# EAGLE library part BM06B-NSHSS-TBT (library NSH)
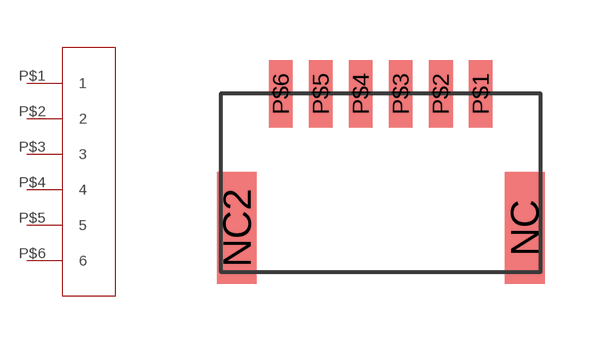
[diagram p0: symbol with the pads of BM06B-NSHSS-TBT; footprint BM06B-NSHSS-TBT]

Designator prefix -

## BM06B-NSHSS-TBT  [BM06B-NSHSS-TBT]
P$1  1
P$2  2
P$3  3
P$4  4
P$5  5
P$6  6

## Footprint BM06B-NSHSS-TBT (pad centres in mm)
smd 1 x 2.8: NC 3.6,1.4; NC2 -3.6,1.4
smd 0.6 x 1.7: P$1 2.5,4.75; P$2 1.5,4.75; P$3 0.5,4.75; P$4 -0.5,4.75; P$5 -1.5,4.75; P$6 -2.5,4.75